# Altium integrated library Lattice FPGA MachXO2.IntLib: 444 symbols (part 2 of 39)
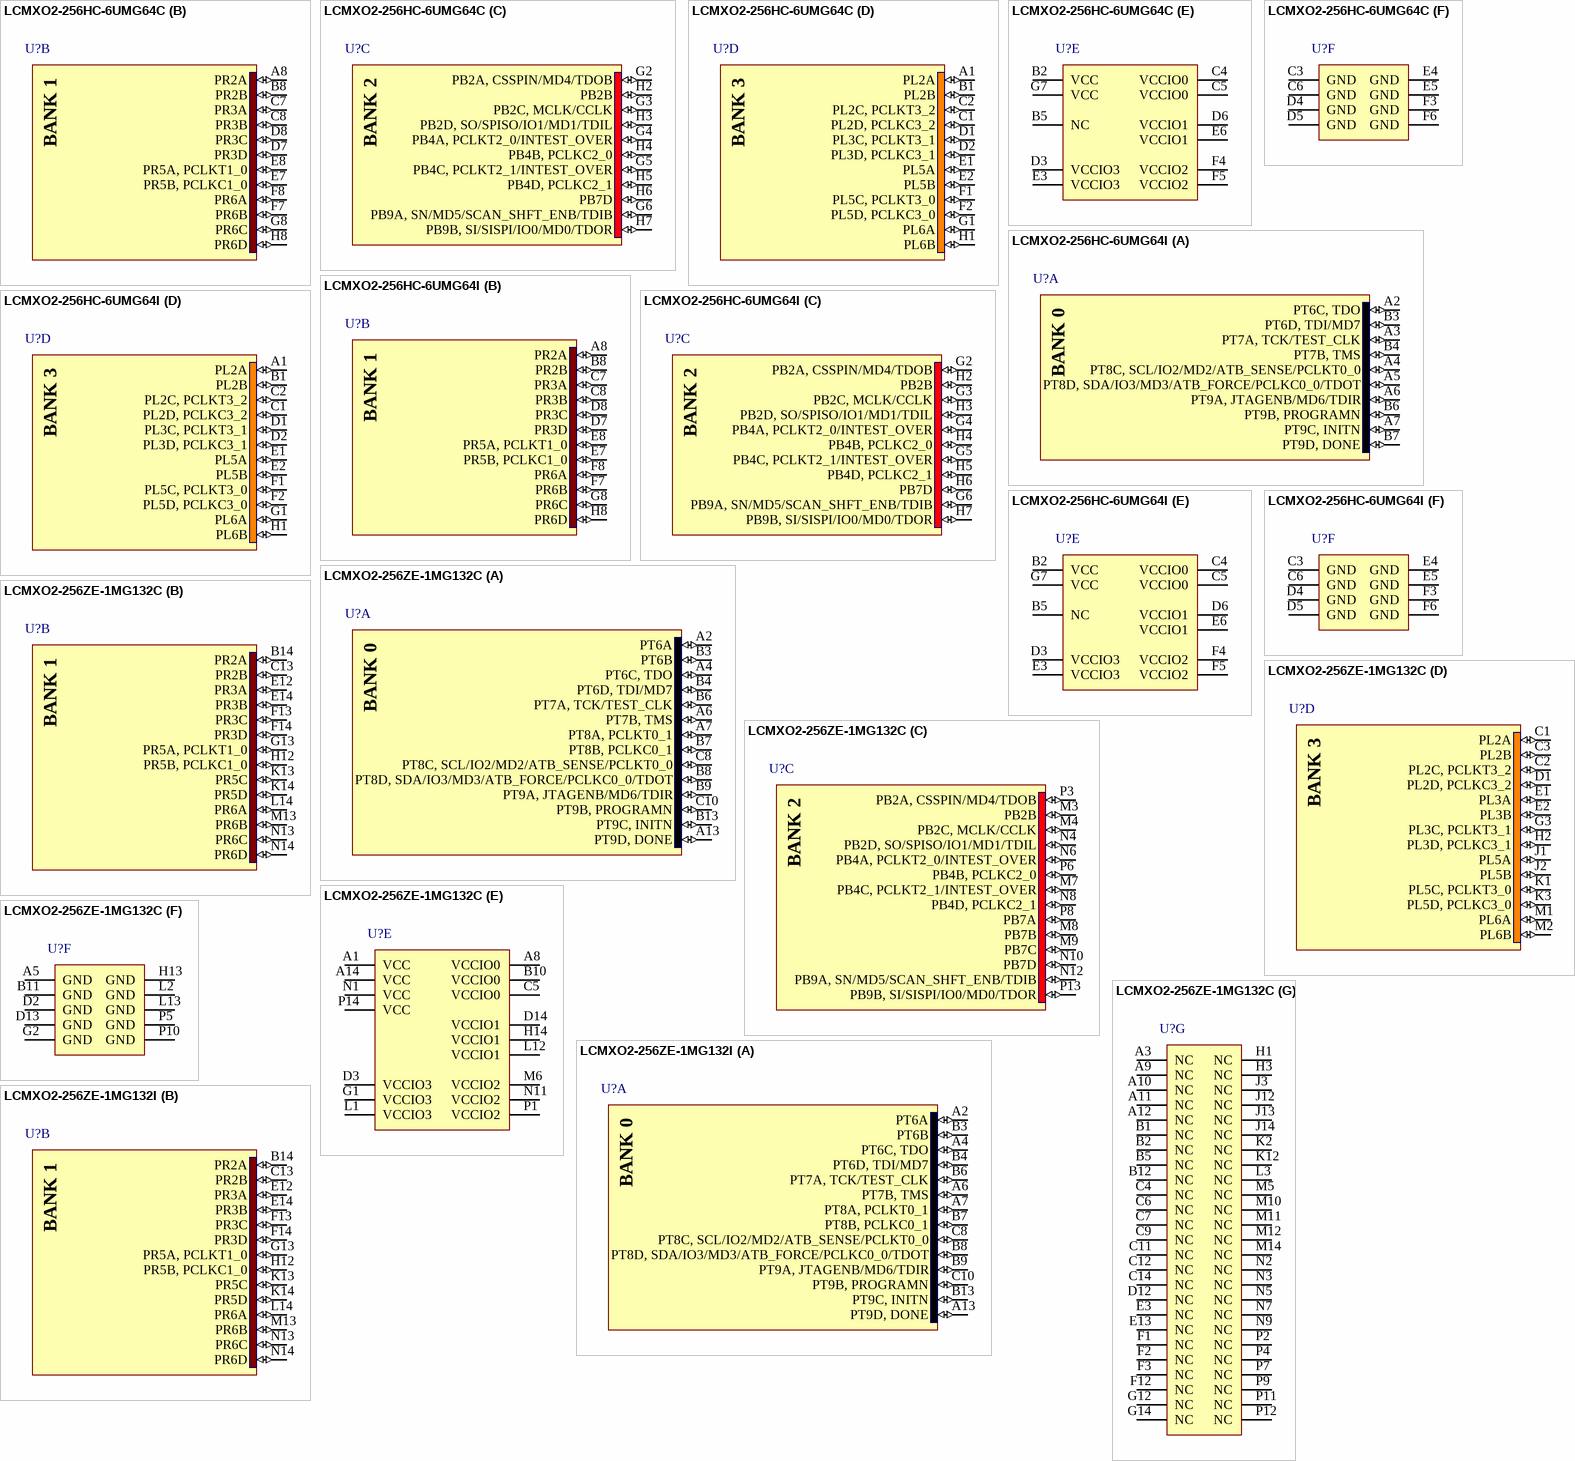
[diagram p107: symbols LCMXO2-256HC-6UMG64C to LCMXO2-256ZE-1MG132I]

## LCMXO2-256ZE-1MG132C
designator U?
MachXO2 Ultra Low Power CPLD with 256 LUTs, 1.2V, 132-pin csBGA, Speed Grade-1, Commercial Grade, Halogen Free (RoHS); DatasheetVersion: ver01.5, Aug-2011; PackageVersion: ver02.8, Jul-2011; PackageReference: csBGA132; PackageDescription: 132-Ball Chip Scale Ball Grid Array (csBGA132); ComponentLink1Description: Manufacturer URL; ComponentLink1URL: http://www.latticesemi.com/; ComponentLink2Description: Datasheet; ComponentLink2URL: http://www.latticesemi.com/documents/DS1035.pdf; ComponentLink3Description: Package Specification; ComponentLink3URL: http://www.latticesemi.com/lit/docs/package/pkg.pdf
footprint csBGA132 (BGA, 132-Leads, Body 8x8mm, Pitch 0.5mm)
part A pins: A2 PT6A (io), A4 PT6C, TDO (io), A6 PT7B, TMS (io), A7 PT8A, PCLKT0_1 (io), A13 PT9D, DONE (io), B3 PT6B (io), B4 PT6D, TDI/MD7 (io), B6 PT7A, TCK/TEST_CLK (io), B7 PT8B, PCLKC0_1 (io), B8 PT8D, SDA/IO3/MD3/ATB_FORCE/PCLKC0_0/TDOT (io), B9 PT9A, JTAGENB/MD6/TDIR (io), B13 PT9C, INITN (io), C8 PT8C, SCL/IO2/MD2/ATB_SENSE/PCLKT0_0 (io), C10 PT9B, PROGRAMN (io)
part B pins: B14 PR2A (io), C13 PR2B (io), E12 PR3A (io), E14 PR3B (io), F13 PR3C (io), F14 PR3D (io), G13 PR5A, PCLKT1_0 (io), H12 PR5B, PCLKC1_0 (io), K13 PR5C (io), K14 PR5D (io), L14 PR6A (io), M13 PR6B (io), N13 PR6C (io), N14 PR6D (io)
part C pins: M3 PB2B (io), M4 PB2C, MCLK/CCLK (io), M7 PB4C, PCLKT2_1/INTEST_OVER (io), M8 PB7B (io), M9 PB7C (io), N4 PB2D, SO/SPISO/IO1/MD1/TDIL (io), N6 PB4A, PCLKT2_0/INTEST_OVER (io), N8 PB4D, PCLKC2_1 (io), N10 PB7D (io), N12 PB9A, SN/MD5/SCAN_SHFT_ENB/TDIB (io), P3 PB2A, CSSPIN/MD4/TDOB (io), P6 PB4B, PCLKC2_0 (io), P8 PB7A (io), P13 PB9B, SI/SISPI/IO0/MD0/TDOR (io)
part D pins: C1 PL2A (io), C2 PL2C, PCLKT3_2 (io), C3 PL2B (io), D1 PL2D, PCLKC3_2 (io), E1 PL3A (io), E2 PL3B (io), G3 PL3C, PCLKT3_1 (io), H2 PL3D, PCLKC3_1 (io), J1 PL5A (io), J2 PL5B (io), K1 PL5C, PCLKT3_0 (io), K3 PL5D, PCLKC3_0 (io), M1 PL6A (io), M2 PL6B (io)
part E pins: A1 VCC (power), A8 VCCIO0 (power), A14 VCC (power), B10 VCCIO0 (power), C5 VCCIO0 (power), D3 VCCIO3 (power), D14 VCCIO1 (power), G1 VCCIO3 (power), H14 VCCIO1 (power), L1 VCCIO3 (power), L12 VCCIO1 (power), M6 VCCIO2 (power), N1 VCC (power), N11 VCCIO2 (power), P1 VCCIO2 (power), P14 VCC (power)
part F pins: A5 GND (power), B11 GND (power), D2 GND (power), D13 GND (power), G2 GND (power), H13 GND (power), L2 GND (power), L13 GND (power), P5 GND (power), P10 GND (power)
part G pins: A3 NC, A9 NC, A10 NC, A11 NC, A12 NC, B1 NC, B2 NC, B5 NC, B12 NC, C4 NC, C6 NC, C7 NC, C9 NC, C11 NC, C12 NC, C14 NC, D12 NC, E3 NC, E13 NC, F1 NC, F2 NC, F3 NC, F12 NC, G12 NC, G14 NC, H1 NC, H3 NC, J3 NC, J12 NC, J13 NC, J14 NC, K2 NC, K12 NC, L3 NC, M5 NC, M10 NC, M11 NC, M12 NC, M14 NC, N2 NC, N3 NC, N5 NC, N7 NC, N9 NC, P2 NC, P4 NC, P7 NC, P9 NC, P11 NC, P12 NC
part A text: BANK 0
part B text: BANK 1
part C text: BANK 2
part D text: BANK 3

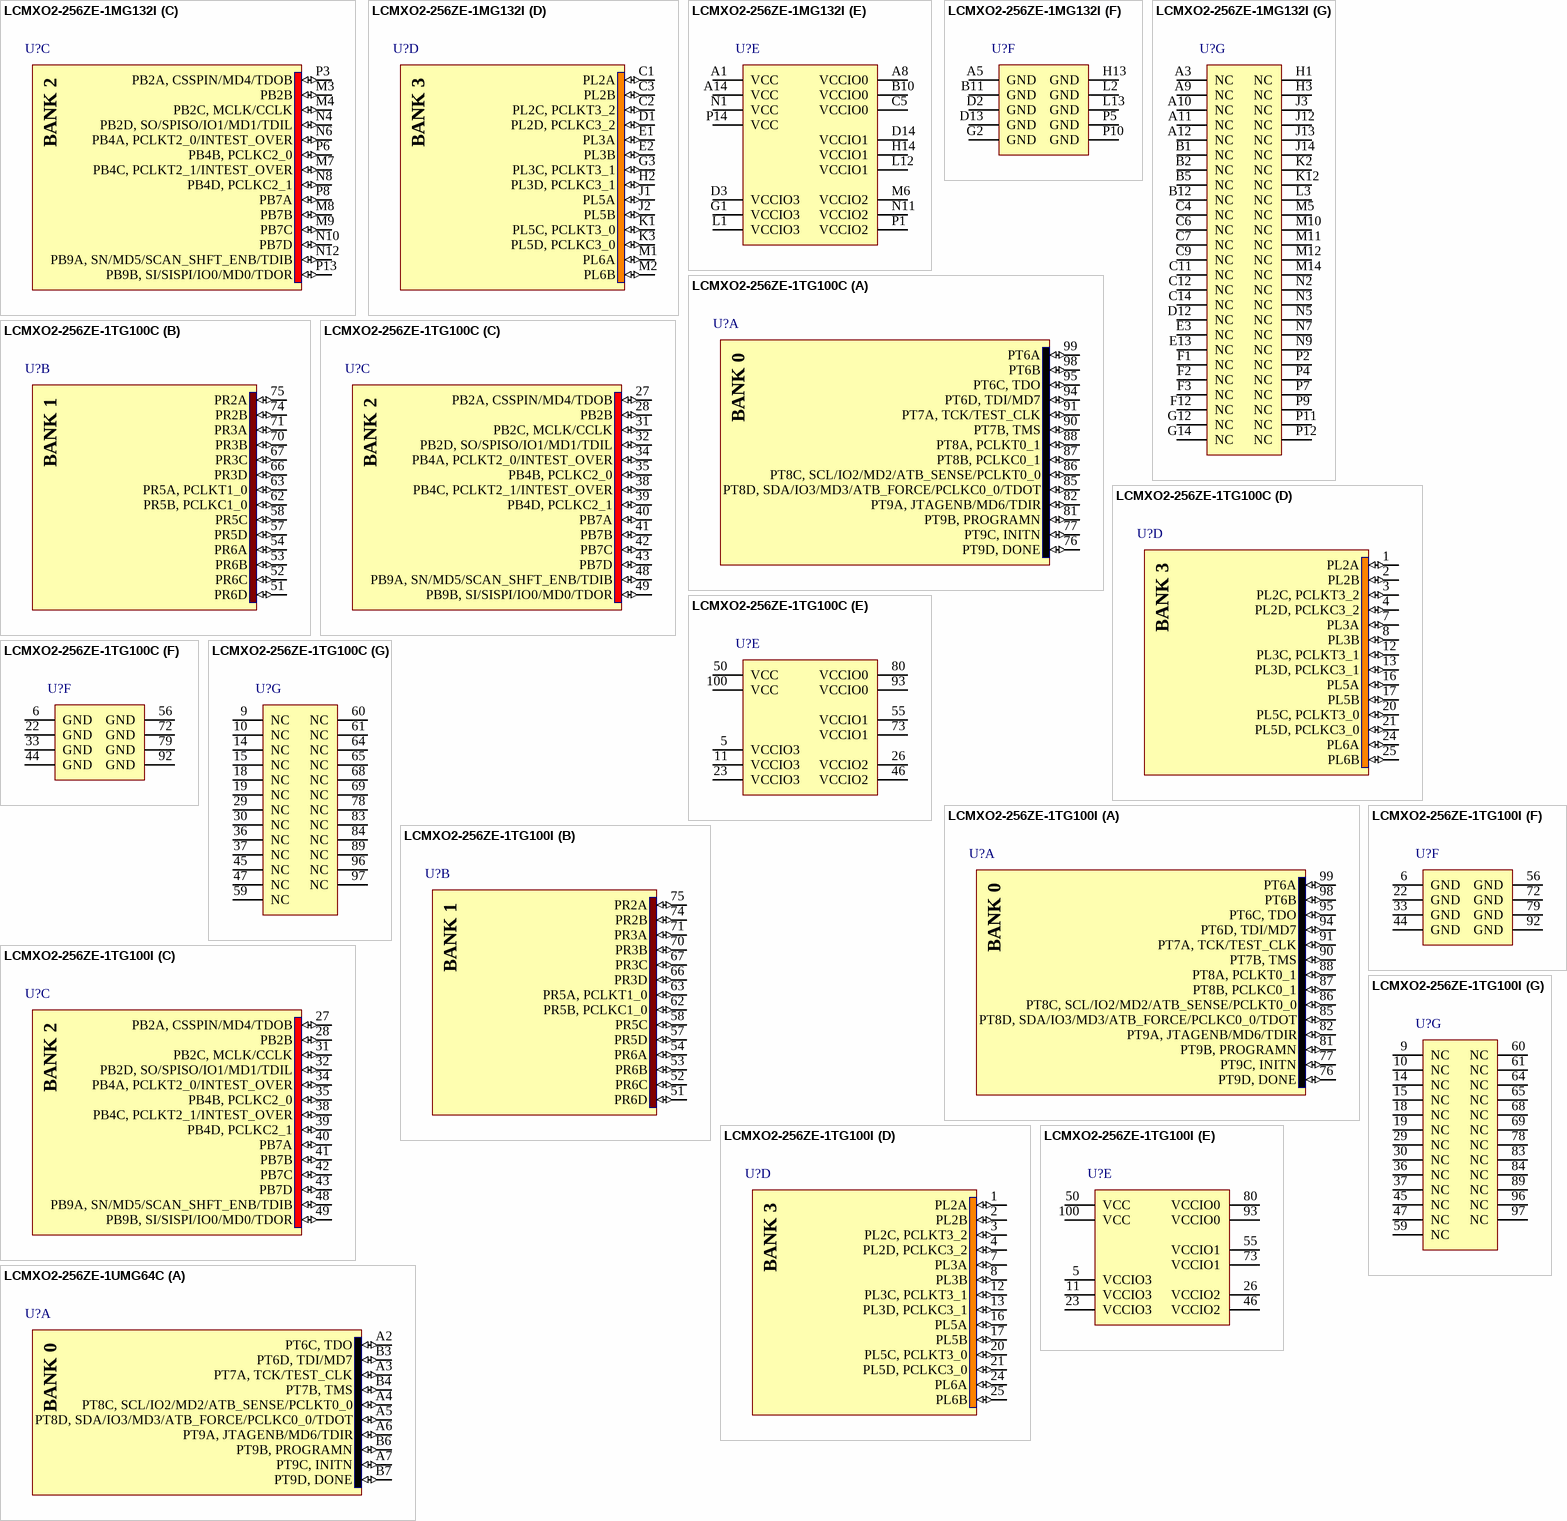
[diagram p6: symbols LCMXO2-256ZE-1MG132I to LCMXO2-256ZE-1UMG64C]

## LCMXO2-256ZE-1MG132I
designator U?
MachXO2 Ultra Low Power CPLD with 256 LUTs, 1.2V, 132-pin csBGA, Speed Grade-1, Industrial Grade, Halogen Free (RoHS); DatasheetVersion: ver01.5, Aug-2011; PackageVersion: ver02.8, Jul-2011; PackageReference: csBGA132; PackageDescription: 132-Ball Chip Scale Ball Grid Array (csBGA132); ComponentLink1Description: Manufacturer URL; ComponentLink1URL: http://www.latticesemi.com/; ComponentLink2Description: Datasheet; ComponentLink2URL: http://www.latticesemi.com/documents/DS1035.pdf; ComponentLink3Description: Package Specification; ComponentLink3URL: http://www.latticesemi.com/lit/docs/package/pkg.pdf
footprint csBGA132 (BGA, 132-Leads, Body 8x8mm, Pitch 0.5mm)
part A pins: A2 PT6A (io), A4 PT6C, TDO (io), A6 PT7B, TMS (io), A7 PT8A, PCLKT0_1 (io), A13 PT9D, DONE (io), B3 PT6B (io), B4 PT6D, TDI/MD7 (io), B6 PT7A, TCK/TEST_CLK (io), B7 PT8B, PCLKC0_1 (io), B8 PT8D, SDA/IO3/MD3/ATB_FORCE/PCLKC0_0/TDOT (io), B9 PT9A, JTAGENB/MD6/TDIR (io), B13 PT9C, INITN (io), C8 PT8C, SCL/IO2/MD2/ATB_SENSE/PCLKT0_0 (io), C10 PT9B, PROGRAMN (io)
part B pins: B14 PR2A (io), C13 PR2B (io), E12 PR3A (io), E14 PR3B (io), F13 PR3C (io), F14 PR3D (io), G13 PR5A, PCLKT1_0 (io), H12 PR5B, PCLKC1_0 (io), K13 PR5C (io), K14 PR5D (io), L14 PR6A (io), M13 PR6B (io), N13 PR6C (io), N14 PR6D (io)
part C pins: M3 PB2B (io), M4 PB2C, MCLK/CCLK (io), M7 PB4C, PCLKT2_1/INTEST_OVER (io), M8 PB7B (io), M9 PB7C (io), N4 PB2D, SO/SPISO/IO1/MD1/TDIL (io), N6 PB4A, PCLKT2_0/INTEST_OVER (io), N8 PB4D, PCLKC2_1 (io), N10 PB7D (io), N12 PB9A, SN/MD5/SCAN_SHFT_ENB/TDIB (io), P3 PB2A, CSSPIN/MD4/TDOB (io), P6 PB4B, PCLKC2_0 (io), P8 PB7A (io), P13 PB9B, SI/SISPI/IO0/MD0/TDOR (io)
part D pins: C1 PL2A (io), C2 PL2C, PCLKT3_2 (io), C3 PL2B (io), D1 PL2D, PCLKC3_2 (io), E1 PL3A (io), E2 PL3B (io), G3 PL3C, PCLKT3_1 (io), H2 PL3D, PCLKC3_1 (io), J1 PL5A (io), J2 PL5B (io), K1 PL5C, PCLKT3_0 (io), K3 PL5D, PCLKC3_0 (io), M1 PL6A (io), M2 PL6B (io)
part E pins: A1 VCC (power), A8 VCCIO0 (power), A14 VCC (power), B10 VCCIO0 (power), C5 VCCIO0 (power), D3 VCCIO3 (power), D14 VCCIO1 (power), G1 VCCIO3 (power), H14 VCCIO1 (power), L1 VCCIO3 (power), L12 VCCIO1 (power), M6 VCCIO2 (power), N1 VCC (power), N11 VCCIO2 (power), P1 VCCIO2 (power), P14 VCC (power)
part F pins: A5 GND (power), B11 GND (power), D2 GND (power), D13 GND (power), G2 GND (power), H13 GND (power), L2 GND (power), L13 GND (power), P5 GND (power), P10 GND (power)
part G pins: A3 NC, A9 NC, A10 NC, A11 NC, A12 NC, B1 NC, B2 NC, B5 NC, B12 NC, C4 NC, C6 NC, C7 NC, C9 NC, C11 NC, C12 NC, C14 NC, D12 NC, E3 NC, E13 NC, F1 NC, F2 NC, F3 NC, F12 NC, G12 NC, G14 NC, H1 NC, H3 NC, J3 NC, J12 NC, J13 NC, J14 NC, K2 NC, K12 NC, L3 NC, M5 NC, M10 NC, M11 NC, M12 NC, M14 NC, N2 NC, N3 NC, N5 NC, N7 NC, N9 NC, P2 NC, P4 NC, P7 NC, P9 NC, P11 NC, P12 NC
part A text: BANK 0
part B text: BANK 1
part C text: BANK 2
part D text: BANK 3

## LCMXO2-256ZE-1TG100C
designator U?
MachXO2 Ultra Low Power CPLD with 256 LUTs, 1.2V, 100-pin TQFP, Speed Grade-1, Commercial Grade, Halogen Free (RoHS); DatasheetVersion: ver01.5, Aug-2011; PackageVersion: ver02.8, Jul-2011; PackageReference: TQFP100; PackageDescription: 100-Pin Thin Quad Flat Pack (TQFP100); Code_JEDEC: MS-026-BED; ComponentLink1Description: Manufacturer URL; ComponentLink1URL: http://www.latticesemi.com/; ComponentLink2Description: Datasheet; ComponentLink2URL: http://www.latticesemi.com/documents/DS1035.pdf; ComponentLink3Description: Package Specification; ComponentLink3URL: http://www.latticesemi.com/lit/docs/package/pkg.pdf
footprint TQFP100_N (Thin QFP, 100-Leads, Body 14x14mm, Pitch 0.5mm, IPC Medium Density)
footprint TQFP100_L (Thin QFP, 100-Leads, Body 14x14mm, Pitch 0.5mm, IPC High Density)
footprint TQFP100_M (Thin QFP, 100-Leads, Body 14x14mm, Pitch 0.5mm, IPC Low Density)
part A pins: 76 PT9D, DONE (io), 77 PT9C, INITN (io), 81 PT9B, PROGRAMN (io), 82 PT9A, JTAGENB/MD6/TDIR (io), 85 PT8D, SDA/IO3/MD3/ATB_FORCE/PCLKC0_0/TDOT (io), 86 PT8C, SCL/IO2/MD2/ATB_SENSE/PCLKT0_0 (io), 87 PT8B, PCLKC0_1 (io), 88 PT8A, PCLKT0_1 (io), 90 PT7B, TMS (io), 91 PT7A, TCK/TEST_CLK (io), 94 PT6D, TDI/MD7 (io), 95 PT6C, TDO (io), 98 PT6B (io), 99 PT6A (io)
part B pins: 51 PR6D (io), 52 PR6C (io), 53 PR6B (io), 54 PR6A (io), 57 PR5D (io), 58 PR5C (io), 62 PR5B, PCLKC1_0 (io), 63 PR5A, PCLKT1_0 (io), 66 PR3D (io), 67 PR3C (io), 70 PR3B (io), 71 PR3A (io), 74 PR2B (io), 75 PR2A (io)
part C pins: 27 PB2A, CSSPIN/MD4/TDOB (io), 28 PB2B (io), 31 PB2C, MCLK/CCLK (io), 32 PB2D, SO/SPISO/IO1/MD1/TDIL (io), 34 PB4A, PCLKT2_0/INTEST_OVER (io), 35 PB4B, PCLKC2_0 (io), 38 PB4C, PCLKT2_1/INTEST_OVER (io), 39 PB4D, PCLKC2_1 (io), 40 PB7A (io), 41 PB7B (io), 42 PB7C (io), 43 PB7D (io), 48 PB9A, SN/MD5/SCAN_SHFT_ENB/TDIB (io), 49 PB9B, SI/SISPI/IO0/MD0/TDOR (io)
part D pins: 1 PL2A (io), 2 PL2B (io), 3 PL2C, PCLKT3_2 (io), 4 PL2D, PCLKC3_2 (io), 7 PL3A (io), 8 PL3B (io), 12 PL3C, PCLKT3_1 (io), 13 PL3D, PCLKC3_1 (io), 16 PL5A (io), 17 PL5B (io), 20 PL5C, PCLKT3_0 (io), 21 PL5D, PCLKC3_0 (io), 24 PL6A (io), 25 PL6B (io)
part E pins: 5 VCCIO3 (power), 11 VCCIO3 (power), 23 VCCIO3 (power), 26 VCCIO2 (power), 46 VCCIO2 (power), 50 VCC (power), 55 VCCIO1 (power), 73 VCCIO1 (power), 80 VCCIO0 (power), 93 VCCIO0 (power), 100 VCC (power)
part F pins: 6 GND (power), 22 GND (power), 33 GND (power), 44 GND (power), 56 GND (power), 72 GND (power), 79 GND (power), 92 GND (power)
part G pins: 9 NC, 10 NC, 14 NC, 15 NC, 18 NC, 19 NC, 29 NC, 30 NC, 36 NC, 37 NC, 45 NC, 47 NC, 59 NC, 60 NC, 61 NC, 64 NC, 65 NC, 68 NC, 69 NC, 78 NC, 83 NC, 84 NC, 89 NC, 96 NC, 97 NC
part A text: BANK 0
part B text: BANK 1
part C text: BANK 2
part D text: BANK 3

## LCMXO2-256ZE-1TG100I
designator U?
MachXO2 Ultra Low Power CPLD with 256 LUTs, 1.2V, 100-pin TQFP, Speed Grade-1, Industrial Grade, Halogen Free (RoHS); DatasheetVersion: ver01.5, Aug-2011; PackageVersion: ver02.8, Jul-2011; PackageReference: TQFP100; PackageDescription: 100-Pin Thin Quad Flat Pack (TQFP100); Code_JEDEC: MS-026-BED; ComponentLink1Description: Manufacturer URL; ComponentLink1URL: http://www.latticesemi.com/; ComponentLink2Description: Datasheet; ComponentLink2URL: http://www.latticesemi.com/documents/DS1035.pdf; ComponentLink3Description: Package Specification; ComponentLink3URL: http://www.latticesemi.com/lit/docs/package/pkg.pdf
footprint TQFP100_N (Thin QFP, 100-Leads, Body 14x14mm, Pitch 0.5mm, IPC Medium Density)
footprint TQFP100_L (Thin QFP, 100-Leads, Body 14x14mm, Pitch 0.5mm, IPC High Density)
footprint TQFP100_M (Thin QFP, 100-Leads, Body 14x14mm, Pitch 0.5mm, IPC Low Density)
part A pins: 76 PT9D, DONE (io), 77 PT9C, INITN (io), 81 PT9B, PROGRAMN (io), 82 PT9A, JTAGENB/MD6/TDIR (io), 85 PT8D, SDA/IO3/MD3/ATB_FORCE/PCLKC0_0/TDOT (io), 86 PT8C, SCL/IO2/MD2/ATB_SENSE/PCLKT0_0 (io), 87 PT8B, PCLKC0_1 (io), 88 PT8A, PCLKT0_1 (io), 90 PT7B, TMS (io), 91 PT7A, TCK/TEST_CLK (io), 94 PT6D, TDI/MD7 (io), 95 PT6C, TDO (io), 98 PT6B (io), 99 PT6A (io)
part B pins: 51 PR6D (io), 52 PR6C (io), 53 PR6B (io), 54 PR6A (io), 57 PR5D (io), 58 PR5C (io), 62 PR5B, PCLKC1_0 (io), 63 PR5A, PCLKT1_0 (io), 66 PR3D (io), 67 PR3C (io), 70 PR3B (io), 71 PR3A (io), 74 PR2B (io), 75 PR2A (io)
part C pins: 27 PB2A, CSSPIN/MD4/TDOB (io), 28 PB2B (io), 31 PB2C, MCLK/CCLK (io), 32 PB2D, SO/SPISO/IO1/MD1/TDIL (io), 34 PB4A, PCLKT2_0/INTEST_OVER (io), 35 PB4B, PCLKC2_0 (io), 38 PB4C, PCLKT2_1/INTEST_OVER (io), 39 PB4D, PCLKC2_1 (io), 40 PB7A (io), 41 PB7B (io), 42 PB7C (io), 43 PB7D (io), 48 PB9A, SN/MD5/SCAN_SHFT_ENB/TDIB (io), 49 PB9B, SI/SISPI/IO0/MD0/TDOR (io)
part D pins: 1 PL2A (io), 2 PL2B (io), 3 PL2C, PCLKT3_2 (io), 4 PL2D, PCLKC3_2 (io), 7 PL3A (io), 8 PL3B (io), 12 PL3C, PCLKT3_1 (io), 13 PL3D, PCLKC3_1 (io), 16 PL5A (io), 17 PL5B (io), 20 PL5C, PCLKT3_0 (io), 21 PL5D, PCLKC3_0 (io), 24 PL6A (io), 25 PL6B (io)
part E pins: 5 VCCIO3 (power), 11 VCCIO3 (power), 23 VCCIO3 (power), 26 VCCIO2 (power), 46 VCCIO2 (power), 50 VCC (power), 55 VCCIO1 (power), 73 VCCIO1 (power), 80 VCCIO0 (power), 93 VCCIO0 (power), 100 VCC (power)
part F pins: 6 GND (power), 22 GND (power), 33 GND (power), 44 GND (power), 56 GND (power), 72 GND (power), 79 GND (power), 92 GND (power)
part G pins: 9 NC, 10 NC, 14 NC, 15 NC, 18 NC, 19 NC, 29 NC, 30 NC, 36 NC, 37 NC, 45 NC, 47 NC, 59 NC, 60 NC, 61 NC, 64 NC, 65 NC, 68 NC, 69 NC, 78 NC, 83 NC, 84 NC, 89 NC, 96 NC, 97 NC
part A text: BANK 0
part B text: BANK 1
part C text: BANK 2
part D text: BANK 3

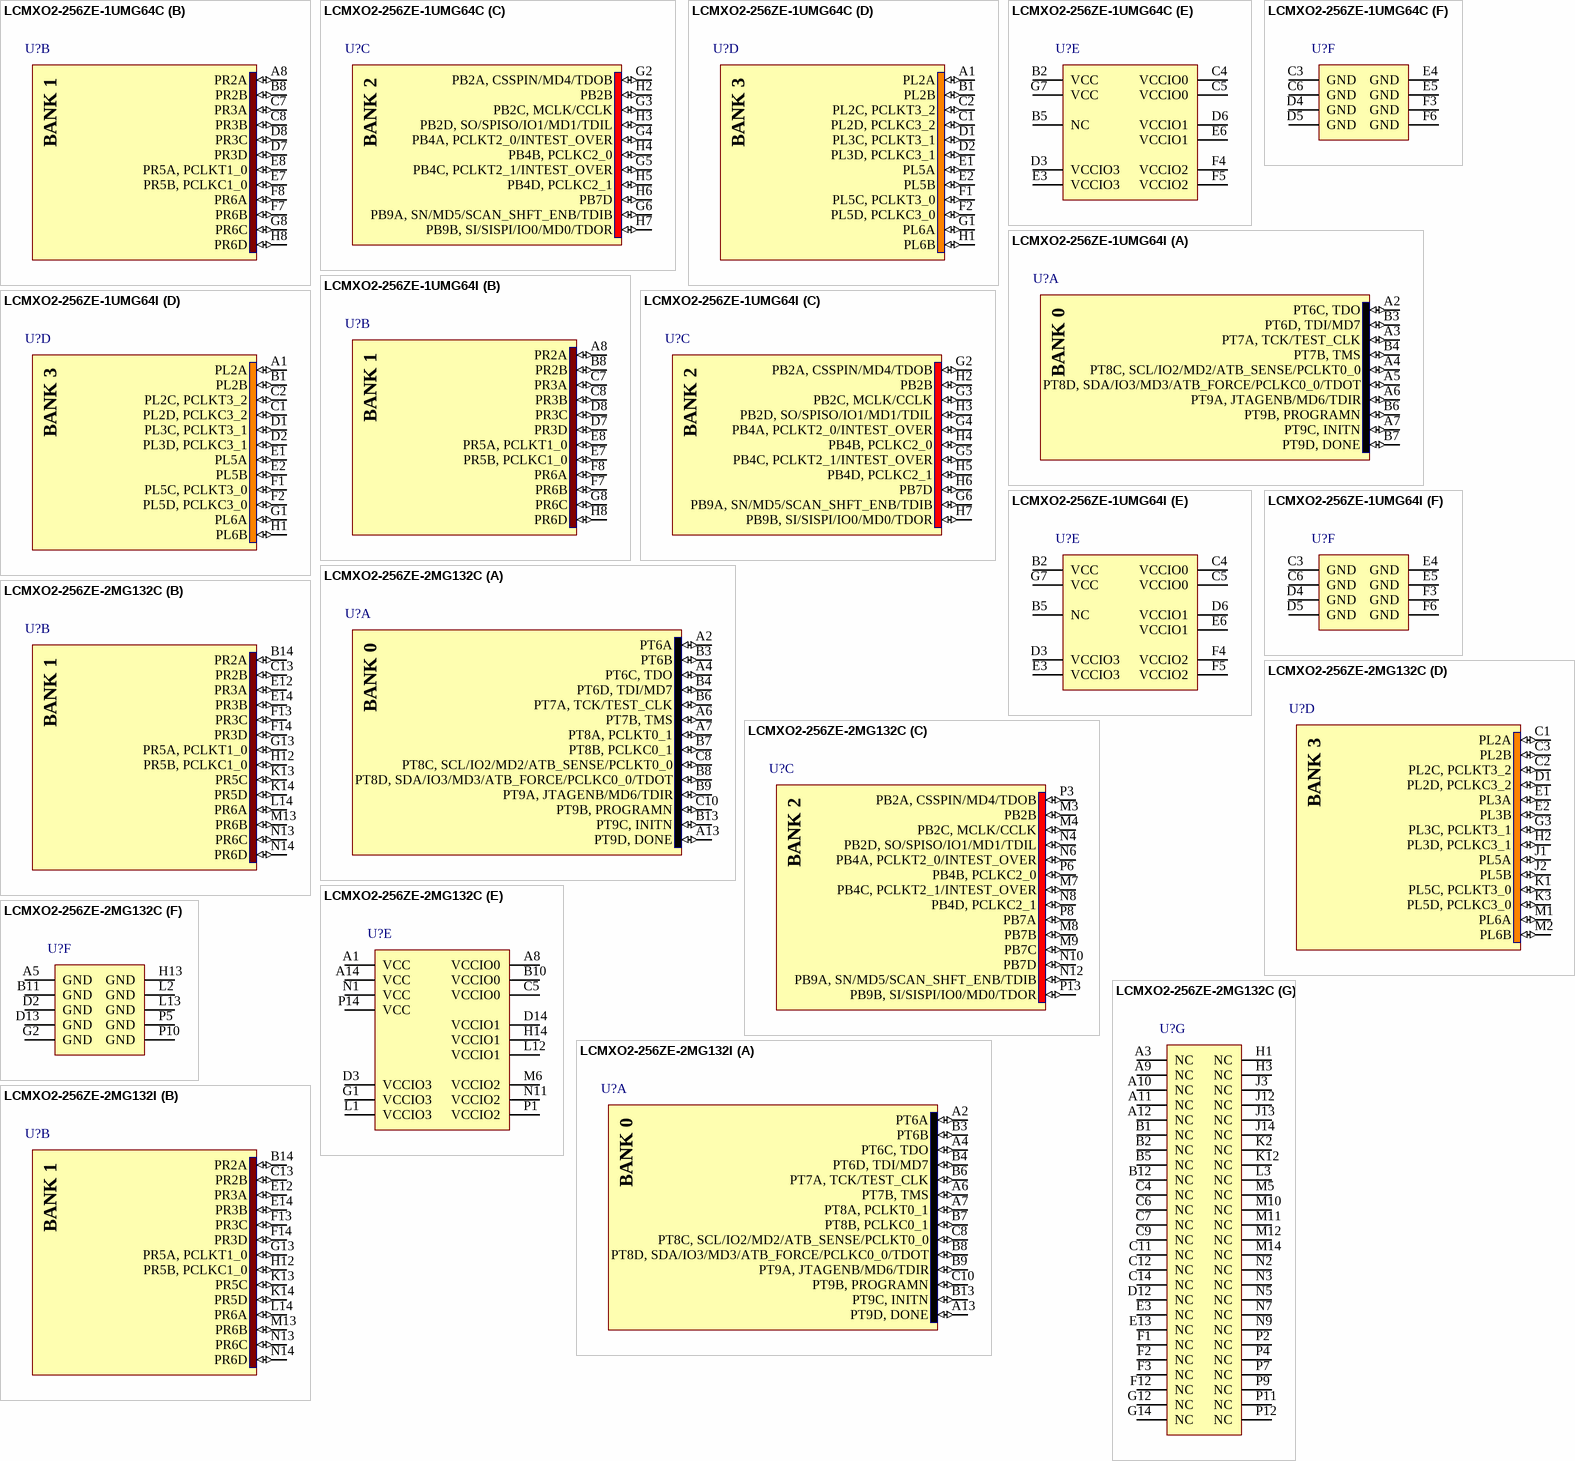
[diagram p7: symbols LCMXO2-256ZE-1UMG64C to LCMXO2-256ZE-2MG132I]

## LCMXO2-256ZE-1UMG64C
designator U?
MachXO2 Ultra Low Power CPLD with 256 LUTs, 1.2V, 64-pin ucBGA, Speed Grade-1, Commercial Grade, Halogen Free (RoHS); DatasheetVersion: ver01.5, Aug-2011; PackageVersion: ver02.8, Jul-2011; PackageReference: ucBGA64; PackageDescription: 64-Ball ucBGA Package, 4 x 4 mm Body, 0.4 mm Pitch; ComponentLink1Description: Manufacturer URL; ComponentLink1URL: http://www.latticesemi.com/; ComponentLink2Description: Datasheet; ComponentLink2URL: http://www.latticesemi.com/documents/DS1035.pdf; ComponentLink3Description: Package Specification; ComponentLink3URL: http://www.latticesemi.com/lit/docs/package/pkg.pdf
footprint ucBGA64 (BGA, 64-Leads, Body 4x4mm, Pitch 0.4mm, Nominal Pad Dia. 0.2mm, Lattice Recommended)
part A pins: A2 PT6C, TDO (io), A3 PT7A, TCK/TEST_CLK (io), A4 PT8C, SCL/IO2/MD2/ATB_SENSE/PCLKT0_0 (io), A5 PT8D, SDA/IO3/MD3/ATB_FORCE/PCLKC0_0/TDOT (io), A6 PT9A, JTAGENB/MD6/TDIR (io), A7 PT9C, INITN (io), B3 PT6D, TDI/MD7 (io), B4 PT7B, TMS (io), B6 PT9B, PROGRAMN (io), B7 PT9D, DONE (io)
part B pins: A8 PR2A (io), B8 PR2B (io), C7 PR3A (io), C8 PR3B (io), D7 PR3D (io), D8 PR3C (io), E7 PR5B, PCLKC1_0 (io), E8 PR5A, PCLKT1_0 (io), F7 PR6B (io), F8 PR6A (io), G8 PR6C (io), H8 PR6D (io)
part C pins: G2 PB2A, CSSPIN/MD4/TDOB (io), G3 PB2C, MCLK/CCLK (io), G4 PB4A, PCLKT2_0/INTEST_OVER (io), G5 PB4C, PCLKT2_1/INTEST_OVER (io), G6 PB9A, SN/MD5/SCAN_SHFT_ENB/TDIB (io), H2 PB2B (io), H3 PB2D, SO/SPISO/IO1/MD1/TDIL (io), H4 PB4B, PCLKC2_0 (io), H5 PB4D, PCLKC2_1 (io), H6 PB7D (io), H7 PB9B, SI/SISPI/IO0/MD0/TDOR (io)
part D pins: A1 PL2A (io), B1 PL2B (io), C1 PL2D, PCLKC3_2 (io), C2 PL2C, PCLKT3_2 (io), D1 PL3C, PCLKT3_1 (io), D2 PL3D, PCLKC3_1 (io), E1 PL5A (io), E2 PL5B (io), F1 PL5C, PCLKT3_0 (io), F2 PL5D, PCLKC3_0 (io), G1 PL6A (io), H1 PL6B (io)
part E pins: B2 VCC (power), B5 NC, C4 VCCIO0 (power), C5 VCCIO0 (power), D3 VCCIO3 (power), D6 VCCIO1 (power), E3 VCCIO3 (power), E6 VCCIO1 (power), F4 VCCIO2 (power), F5 VCCIO2 (power), G7 VCC (power)
part F pins: C3 GND (power), C6 GND (power), D4 GND (power), D5 GND (power), E4 GND (power), E5 GND (power), F3 GND (power), F6 GND (power)
part A text: BANK 0
part B text: BANK 1
part C text: BANK 2
part D text: BANK 3